# Altium schematic symbol library SN74HC574N.SchLib: 1 symbol
Pins are listed as number, name and electrical type; pins without a type are passive.

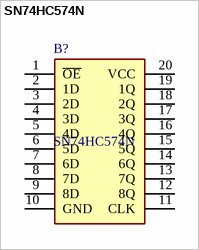
[diagram p0: symbol SN74HC574N]

## SN74HC574N
designator B?
OCTAL EDGE-TRIGGERED D-TYPE FLIP-FLOPS WITH 3-STATE OUTPUTS; Manufacturer_Name: Texas Instruments; Geometry.Height: 5.08mm; Mouser Part Number: 595-SN74HC574N; Mouser Price/Stock: https://www.mouser.co.uk/ProductDetail/Texas-Instruments/SN74HC574N?qs=7KMwW2o1%252BmTGh61cX6rAtQ%3D%3D; Manufacturer_Part_Number: SN74HC574N; Datasheet Link: http://componentsearchengine.com/Datasheets/1/SN74HC574N.pdf
footprint DIP794W53P254L2540H508Q20N
pins: 1 ~{OE}, 2 1D, 3 2D, 4 3D, 5 4D, 6 5D, 7 6D, 8 7D, 9 8D, 10 GND, 11 CLK, 12 8Q, 13 7Q, 14 6Q, 15 5Q, 16 4Q, 17 3Q, 18 2Q, 19 1Q, 20 VCC